# Altium footprint library robotPCBLib.PcbLib: 29 footprints (part 1 of 2)
Each footprint in its own frame and in the unit in brackets; x right, y up, seen from the top. Pads: shape width x height; smd on the part's side, far side on the other; paste and mask are expansions set on the pad; w line width, h text height; cw(c..) or ccw(c..) is an arc to the next point about the centre after c.
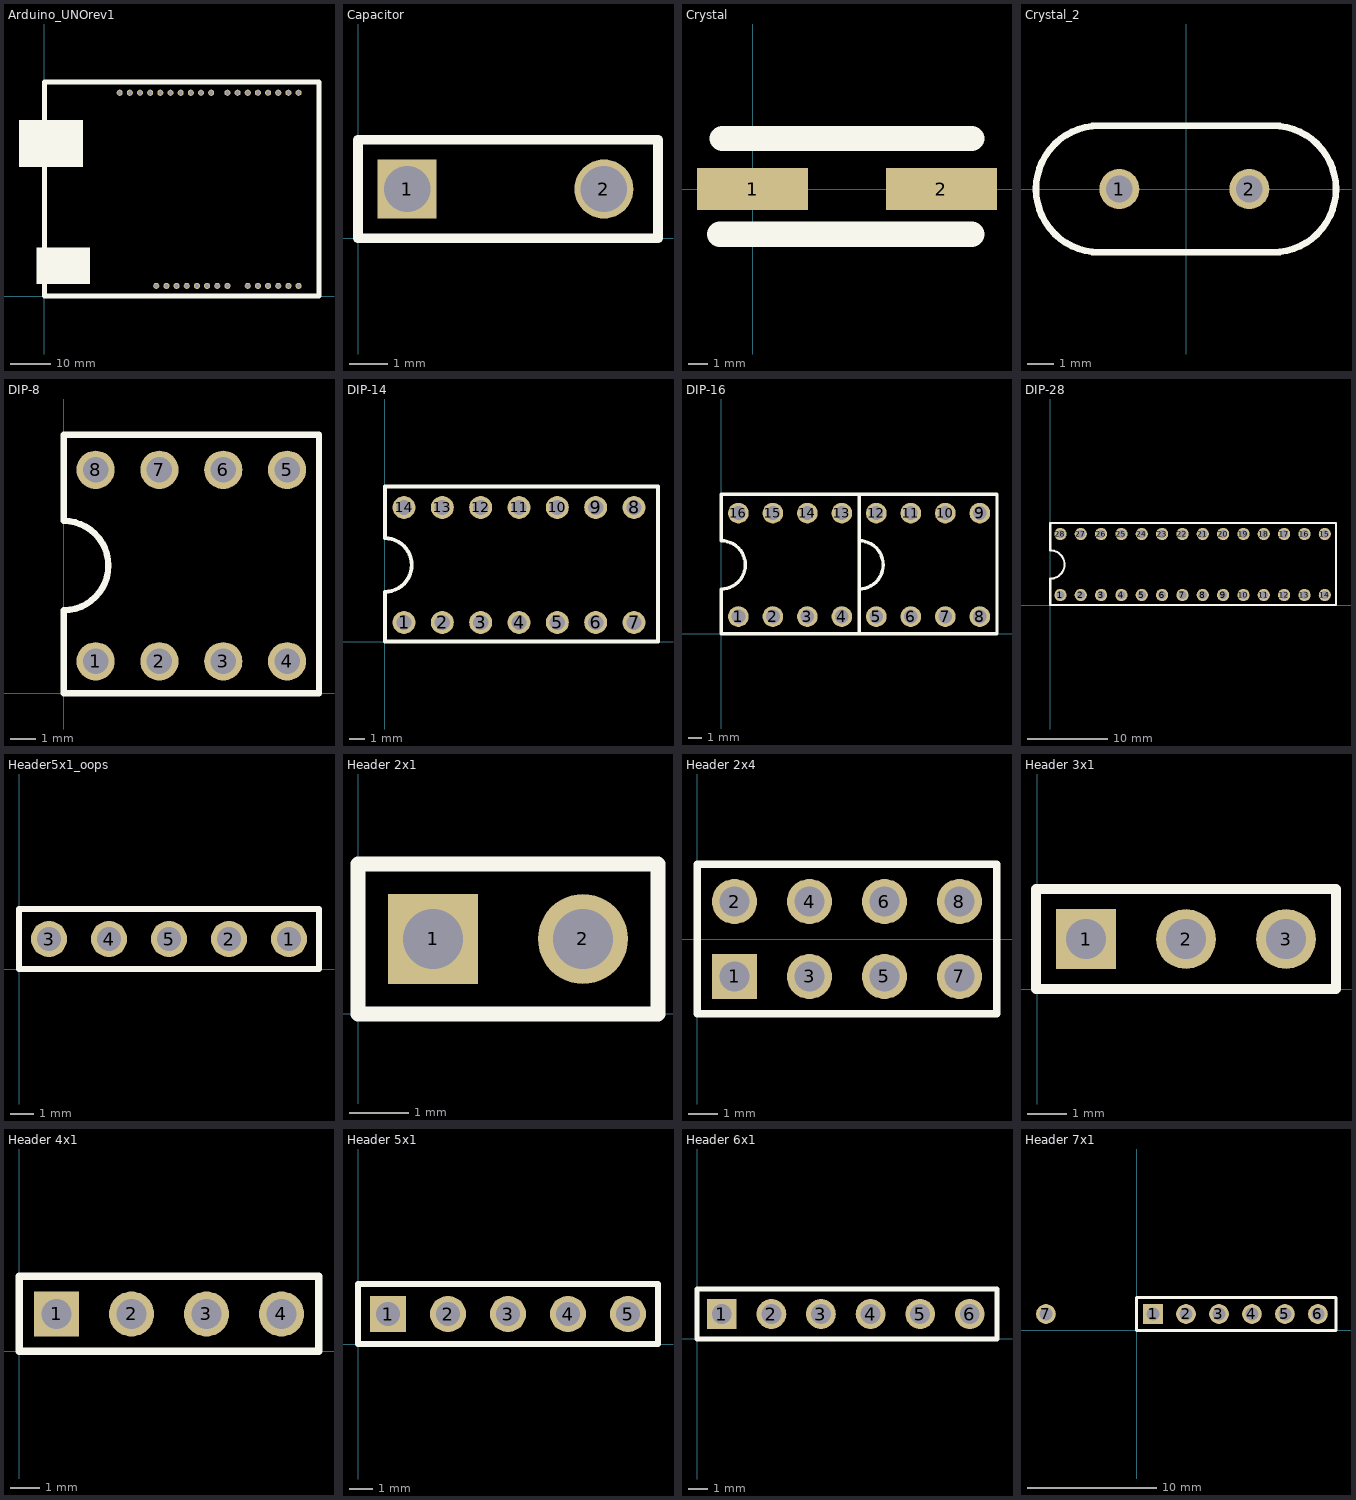
[diagram p0: the footprints below, top view; thin cyan lines are the x and y axes]

## Arduino_UNOrev1 [mil]
height 5905.51
pads (32):
  round 60 hole 40: 1(1300,100) 2(1400,100) 3(1500,100) 4(1600,100) 5(1700,100) 6(1800,100) 7(2000,100) 8(2100,100) 9(2200,100) 10(2300,100) 11(2400,100) 12(2500,100) 13(2500,2000) 14(2400,2000) 15(2300,2000) 16(2200,2000) 17(2100,2000) 18(2000,2000) 19(1900,2000) 20(1800,2000) 21(1640,2000) 22(1540,2000) 23(1440,2000) 24(1340,2000) 25(1240,2000) 26(1140,2000) 27(1040,2000) 28(940,2000) 29(840,2000) 30(740,2000) ""(1100,100) ""(1200,100)
Top Overlay:
  rectangle: -250,1270 380,1730
  rectangle: -80,120 450,480
  lines w50: 0,0 0,2106.3 2700.79,2106.3 2700.79,0 0,0

## Capacitor [mil]
pads (2):
  rect 60x60 hole 47.24: 1(50,50)
  round 60 hole 47.24: 2(250,50)
Top Overlay:
  lines w10: 0,0 0,100 305,100 305,0 0,0

## Crystal [mm]
pads (2):
  rect 5.6x2.1 smd: 1(0,0) 2(9.525,0)
Top Overlay:
  lines w1.27: -1.651,-2.286 11.049,-2.286 ; -1.524,2.54 11.049,2.54

## Crystal_2 [mil]
pads (2):
  round 60 hole 40: 1(-100,0) 2(95,0)
Top Overlay:
  lines w10: -130,-95 cw(c-130,0) -130,95 130,95 cw(c130,0) 130,-95 -127.5,-95

## DIP-8 [mil]
pads (8):
  round 60 hole 40: 1(50,50) 2(150,50) 3(250,50) 4(350,50) 5(350,350) 6(250,350) 7(150,350) 8(50,350)
Top Overlay:
  lines w10: 0,0 400,0 400,405 0,405 0,270 cw(c0,200) 0,130 0,0

## DIP-14 [mil]
pads (14):
  round 60 hole 40: 1(50,50) 2(150,50) 3(250,50) 4(350,50) 5(450,50) 6(550,50) 7(650,50) 8(650,350) 9(550,350) 10(450,350) 11(350,350) 12(250,350) 13(150,350) 14(50,350)
Top Overlay:
  lines w10: 0,0 0,130 ccw(c0,200) 0,270 0,405 712.6,405 712.6,257.76 712.6,0 0,0

## DIP-16 [mil]
pads (16):
  round 60 hole 40: 1(50,50) 2(150,50) 3(250,50) 4(350,50) 5(450,50) 6(550,50) 7(650,50) 8(750,50) 9(750,350) 10(650,350) 11(550,350) 12(450,350) 13(350,350) 14(250,350) 15(150,350) 16(50,350)
Top Overlay:
  lines w10: 400,0 0,0 0,130 ccw(c0,200) 0,270 0,405 400,405 ; 400,0 400,405 ; 400,0 800,0 800,405 400,405 ; 400,0 400,130 ccw(c400,200) 400,270 400,405

## DIP-28 [mil]
pads (28):
  round 60 hole 40: 1(50,50) 2(150,50) 3(250,50) 4(350,50) 5(450,50) 6(550,50) 7(650,50) 8(750,50) 9(850,50) 10(950,50) 11(1050,50) 12(1150,50) 13(1250,50) 14(1350,50) 15(1350,350) 16(1250,350) 17(1150,350) 18(1050,350) 19(950,350) 20(850,350) 21(750,350) 22(650,350) 23(550,350) 24(450,350) 25(350,350) 26(250,350) 27(150,350) 28(50,350)
Top Overlay:
  lines w10: 0,0 0,130 ccw(c0,200) 0,270 0,405 1405,405 1405,210 1405,0 0,0

## Header5x1_oops [mil]
pads (5):
  round 60 hole 40: 1(450,50) 2(350,50) 3(50,50) 4(150,50) 5(250,50)
Top Overlay:
  lines w10: 0,0 500,0 500,100 0,100 0,0
3D body: height 373.85, standoff -125.98, extent 0.01,0 500.01,100

## Header 2x1 [mil]
pads (2):
  rect 60x60 hole 40: 1(50,50)
  round 60 hole 40: 2(150,50)
Top Overlay:
  lines w10: 0,0 200,0 200,100 0,100 0,0
3D body: height 373.85, standoff -125.98, extent 0.01,0.01 200.01,100.01

## Header 2x4 [mil]
pads (8):
  rect 60x60 hole 40: 1(50,-50)
  round 60 hole 40: 2(50,50) 3(150,-50) 4(150,50) 5(250,-50) 6(250,50) 7(350,-50) 8(350,50)
Top Overlay:
  lines w10: 0,-100 0,100 400,100 400,-100 0,-100

## Header 3x1 [mil]
pads (3):
  rect 60x60 hole 40: 1(49,50)
  round 60 hole 40: 2(149,50) 3(249,50)
Top Overlay:
  lines w10: -1,0 -1,100 299,100 299,0 -1,0
3D body: height 373.85, standoff -125.98, extent -1,0 299,100

## Header 4x1 [mil]
pads (4):
  rect 60x60 hole 40: 1(50,50)
  round 60 hole 40: 2(150,50) 3(250,50) 4(350,50)
Top Overlay:
  lines w10: 0,0 400,0 400,100 0,100 0,0

## Header 5x1 [mil]
pads (5):
  rect 60x60 hole 40: 1(50,50)
  round 60 hole 40: 2(150,50) 3(250,50) 4(350,50) 5(450,50)
Top Overlay:
  lines w10: 0,0 0,100 500,100 500,0 0,0
3D body: height 373.85, standoff -125.98, extent 0.01,0 500.01,100

## Header 6x1 [mil]
pads (6):
  rect 60x60 hole 40: 1(50,50)
  round 60 hole 40: 2(150,50) 3(250,50) 4(350,50) 5(450,50) 6(550,50)
Top Overlay:
  lines w10: 0,0 605,0 605,100 0,100 0,0

## Header 7x1 [mil]
pads (7):
  rect 60x60 hole 40: 1(50,50)
  round 60 hole 40: 2(150,50) 3(250,50) 4(350,50) 5(450,50) 6(550,50) 7(-275,50)
Top Overlay:
  lines w10: 0,0 0,100 605,100 605,0 0,0